# Altium schematic symbol library SN65HVD1050D.SchLib: 1 symbol
Pins are listed as number, name and electrical type; pins without a type are passive.

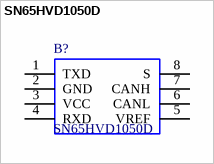
[diagram p0: symbol SN65HVD1050D]

## SN65HVD1050D
designator B?
CAN Transceiver 1Mbit/s ISO 11898, Silent-Mode, 8-Pin SOIC; Manufacturer_Name: Texas Instruments; Geometry.Height: 1.75mm; Manufacturer_Part_Number: SN65HVD1050D; RS Part Number: 0527855; RS Price/Stock: http://uk.rs-online.com/web/p/products/0527855; Arrow Part Number: SN65HVD1050D; Arrow Price/Stock: https://www.arrow.com/en/products/sn65hvd1050d/texas-instruments; Datasheet Link: http://docs-europe.electrocomponents.com/webdocs/0b77/0900766b80b773db.pdf
footprint SOIC127P600X175-8N
pins: 1 TXD, 2 GND, 3 VCC (power), 4 RXD, 5 VREF, 6 CANL, 7 CANH, 8 S